# Altium footprint library SZ1V5.PcbLib: 3 footprints
Each footprint in its own frame and in the unit in brackets; x right, y up, seen from the top. Pads: shape width x height; smd on the part's side, far side on the other; paste and mask are expansions set on the pad; w line width, h text height; cw(c..) or ccw(c..) is an arc to the next point about the centre after c.
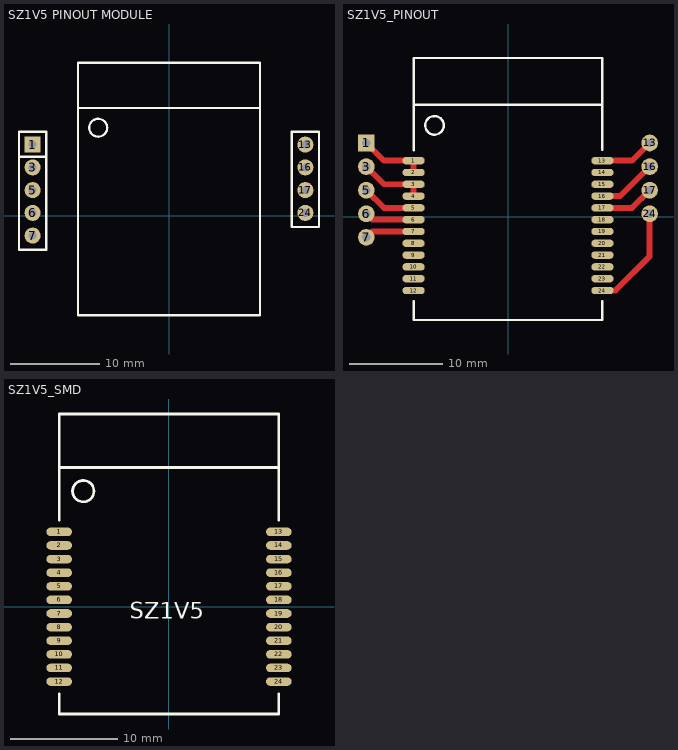
[diagram p0: the footprints below, top view; thin cyan lines are the x and y axes]

## SZ1V5 PINOUT MODULE [mm]
pads (9):
  rect 1.8x1.8 hole 0.9: 1(-15.24,7.938)
  round 1.8 hole 0.9: 3(-15.24,5.397) 5(-15.24,2.857) 6(-15.24,0.318) 7(-15.24,-2.222) 13(15.24,7.938) 16(15.24,5.397) 17(15.24,2.857) 24(15.24,0.318)
Top Overlay:
  circle w0.254: c-7.91,9.833 r1
  lines w0.254: -16.764,6.604 -13.716,6.604 ; -10.16,-11.112 10.16,-11.112 10.16,17.081 -10.16,17.081 -10.16,-11.049 ; -10.16,12.033 10.16,12.033 ; -16.764,-3.81 -16.764,9.398 -13.716,9.398 -13.716,-3.81 -16.764,-3.81 ; 13.716,-1.27 16.764,-1.27 16.764,9.398 13.716,9.398 13.716,-1.27

## SZ1V5_PINOUT [mm]
pads (33):
  rect 1.8x1.8 hole 0.9: 1(-15.24,7.938)
  rrect100% 2.4x0.8 smd: 1(-10.16,6.032) 2(-10.16,4.763) 3(-10.16,3.492) 4(-10.16,2.222) 5(-10.16,0.953) 6(-10.16,-0.318) 7(-10.16,-1.587) 8(-10.16,-2.857) 9(-10.16,-4.127) 10(-10.16,-5.397) 11(-10.16,-6.667) 12(-10.16,-7.938) 13(10.16,6.032) 14(10.16,4.763) 15(10.16,3.492) 16(10.16,2.222) 17(10.16,0.953) 18(10.16,-0.318) 19(10.16,-1.587) 20(10.16,-2.857) 21(10.16,-4.127) 22(10.16,-5.397) 23(10.16,-6.667) 24(10.16,-7.938)
  round 1.8 hole 0.9: 3(-15.24,5.397) 5(-15.24,2.857) 6(-15.24,0.318) 7(-15.24,-2.222) 13(15.24,7.938) 16(15.24,5.397) 17(15.24,2.857) 24(15.24,0.318)
Top Layer:
  lines w0.635: -15.24,-2.222 -14.605,-1.587 -10.16,-1.587 ; -15.24,0.318 -14.605,-0.318 -10.16,-0.318 ; -15.24,2.857 -13.335,0.953 -10.16,0.953 ; -15.24,5.397 -13.335,3.492 -10.16,3.492 -10.16,2.222 ; -15.24,7.938 -13.335,6.032 -10.16,6.032 -10.16,4.763 ; 10.16,-7.938 11.557,-7.938 15.24,-4.255 15.24,0.318 ; 10.16,0.953 13.335,0.953 15.24,2.857 ; 10.16,2.222 12.065,2.222 15.24,5.397 ; 10.16,6.032 13.335,6.032 15.24,7.938
Top Overlay:
  circle w0.254: c-7.91,9.833 r1
  lines w0.254: -10.16,-9.067 -10.16,-11.112 10.16,-11.112 10.16,-9.067 ; -10.16,7.133 -10.16,17.081 10.16,17.081 10.16,7.175 ; -10.16,12.033 10.16,12.033

## SZ1V5_SMD [mm]
pads (24):
  rrect100% 2.4x0.8 smd: 1(-10.25,6.985) 2(-10.25,5.715) 3(-10.25,4.445) 4(-10.25,3.175) 5(-10.25,1.905) 6(-10.25,0.635) 7(-10.25,-0.635) 8(-10.25,-1.905) 9(-10.25,-3.175) 10(-10.25,-4.445) 11(-10.25,-5.715) 12(-10.25,-6.985) 13(10.25,6.985) 14(10.25,5.715) 15(10.25,4.445) 16(10.25,3.175) 17(10.25,1.905) 18(10.25,0.635) 19(10.25,-0.635) 20(10.25,-1.905) 21(10.25,-3.175) 22(10.25,-4.445) 23(10.25,-5.715) 24(10.25,-6.985)
Top Overlay:
  circle w0.254: c-8,10.785 r1
  lines w0.254: -10.25,-8.115 -10.25,-10.015 10.25,-10.015 10.25,-8.115 ; -10.25,8.085 -10.25,17.985 10.25,17.985 10.25,8.085 ; -10.25,12.985 10.25,12.985
  text "SZ1V5" at -3.65,-1.115 h1.52